# EAGLE library part LSM9DS1 (library Quadparts)
CREATOR: Andrew Saad DIST: Digikey DISTPN: 497-14946-1-ND MFR: STMicroelectronics MPN: LSM9DS1TR REVIEWER: N/A
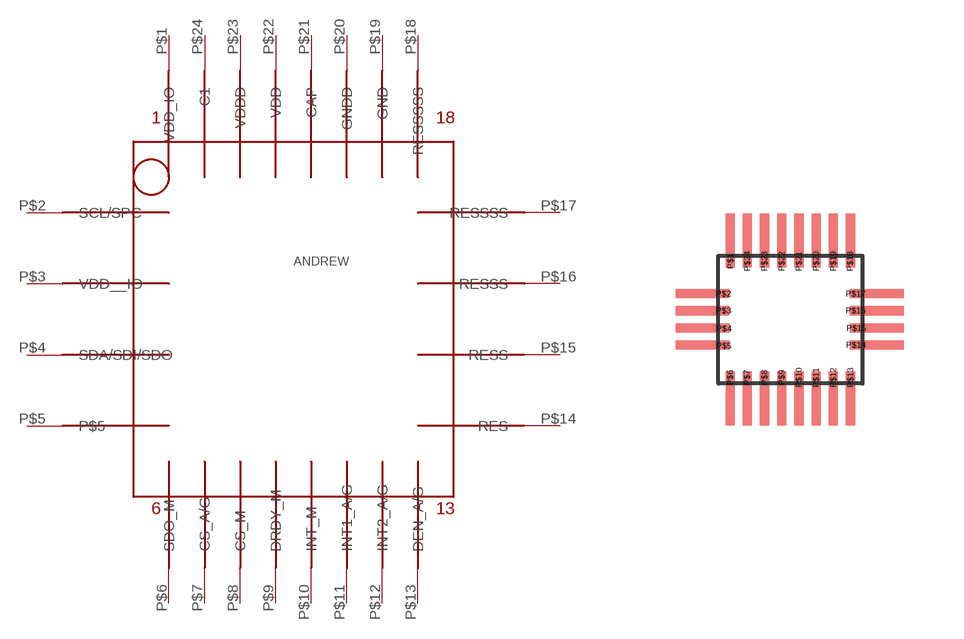
[diagram p0: symbol with the pads of LSM9DS1; footprint LSM9DS1]

Designator prefix ANDREW

## LSM9DS1 (CREATOR: Andrew Saad; DIST: Digikey; DISTPN: 497-14946-1-ND; MFR: STMicroelectronics; MPN: LSM9DS1TR; REVIEWER: N/A)  [LSM9DS1]
P$1  VDD_IO
P$2  SCL/SPC
P$3  VDD__IO
P$4  SDA/SDI/SDO
P$5  P$5
P$6  SDO_M
P$7  CS_A/G
P$8  CS_M
P$9  DRDY_M
P$10  INT_M
P$11  INT1_A/G
P$12  INT2_A/G
P$13  DEN_A/G
P$14  RES
P$15  RESS
P$16  RESSS
P$17  RESSSS
P$18  RESSSSS
P$19  GND
P$20  GNDD
P$21  CAP
P$22  VDD
P$23  VDDD
P$24  C1

## Footprint LSM9DS1 (pad centres in mm)
smd 0.152 x 0.305: P$1 -1.5,1.46; P$6 -1.51,-1.45; P$7 -1.09,-1.45; P$8 -0.65,-1.45; P$9 -0.22,-1.45; P$10 0.21,-1.45; P$11 0.64,-1.45; P$12 1.07,-1.45; P$13 1.5,-1.45; P$18 1.49,1.46; P$19 1.07,1.46; P$20 0.64,1.46; P$21 0.21,1.46; P$22 -0.22,1.46; P$23 -0.65,1.46; P$24 -1.08,1.46
smd 0.305 x 0.152: P$2 -1.67,0.65; P$3 -1.67,0.23; P$4 -1.66,-0.22; P$5 -1.66,-0.65; P$14 1.64,-0.63; P$15 1.65,-0.21; P$16 1.63,0.23; P$17 1.63,0.65